# Altium schematic symbol library Other components.SchLib: 1 symbol
Pins are listed as number, name and electrical type; pins without a type are passive.

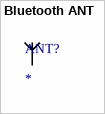
[diagram p0: symbol Bluetooth ANT]

## Bluetooth ANT
designator ANT?
for NRF51
footprint Bluetooth ant nrf51
pins: 1